# Altium integrated library 功率NMOS.IntLib: 1 symbol
Pins are listed as number, name and electrical type; pins without a type are passive.

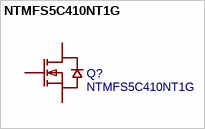
[diagram p0: symbol NTMFS5C410NT1G]

## NTMFS5C410NT1G
designator Q?
Manufacturer: onsemi(安森美); Contributor: LCSC; Supplier: LCSC; Supplier Part: C604434; Manufacturer Part: NTMFS5C410NT1G; JLCPCB Part Class: Extended Part; spicePre: Q; spiceSymbolName: NTMFS5C410NT1G
footprint SO-8-FL_L4.8-W5.8-P1.27-LS6.1-L
pins: 1 S, 2 S, 3 S, 4 G, 5 D, 6 D